# Altium footprint library RUT2CLOUD.PcbLib: 44 footprints (part 1 of 3)
Each footprint in its own frame and in the unit in brackets; x right, y up, seen from the top. Pads: shape width x height; smd on the part's side, far side on the other; paste and mask are expansions set on the pad; w line width, h text height; cw(c..) or ccw(c..) is an arc to the next point about the centre after c.
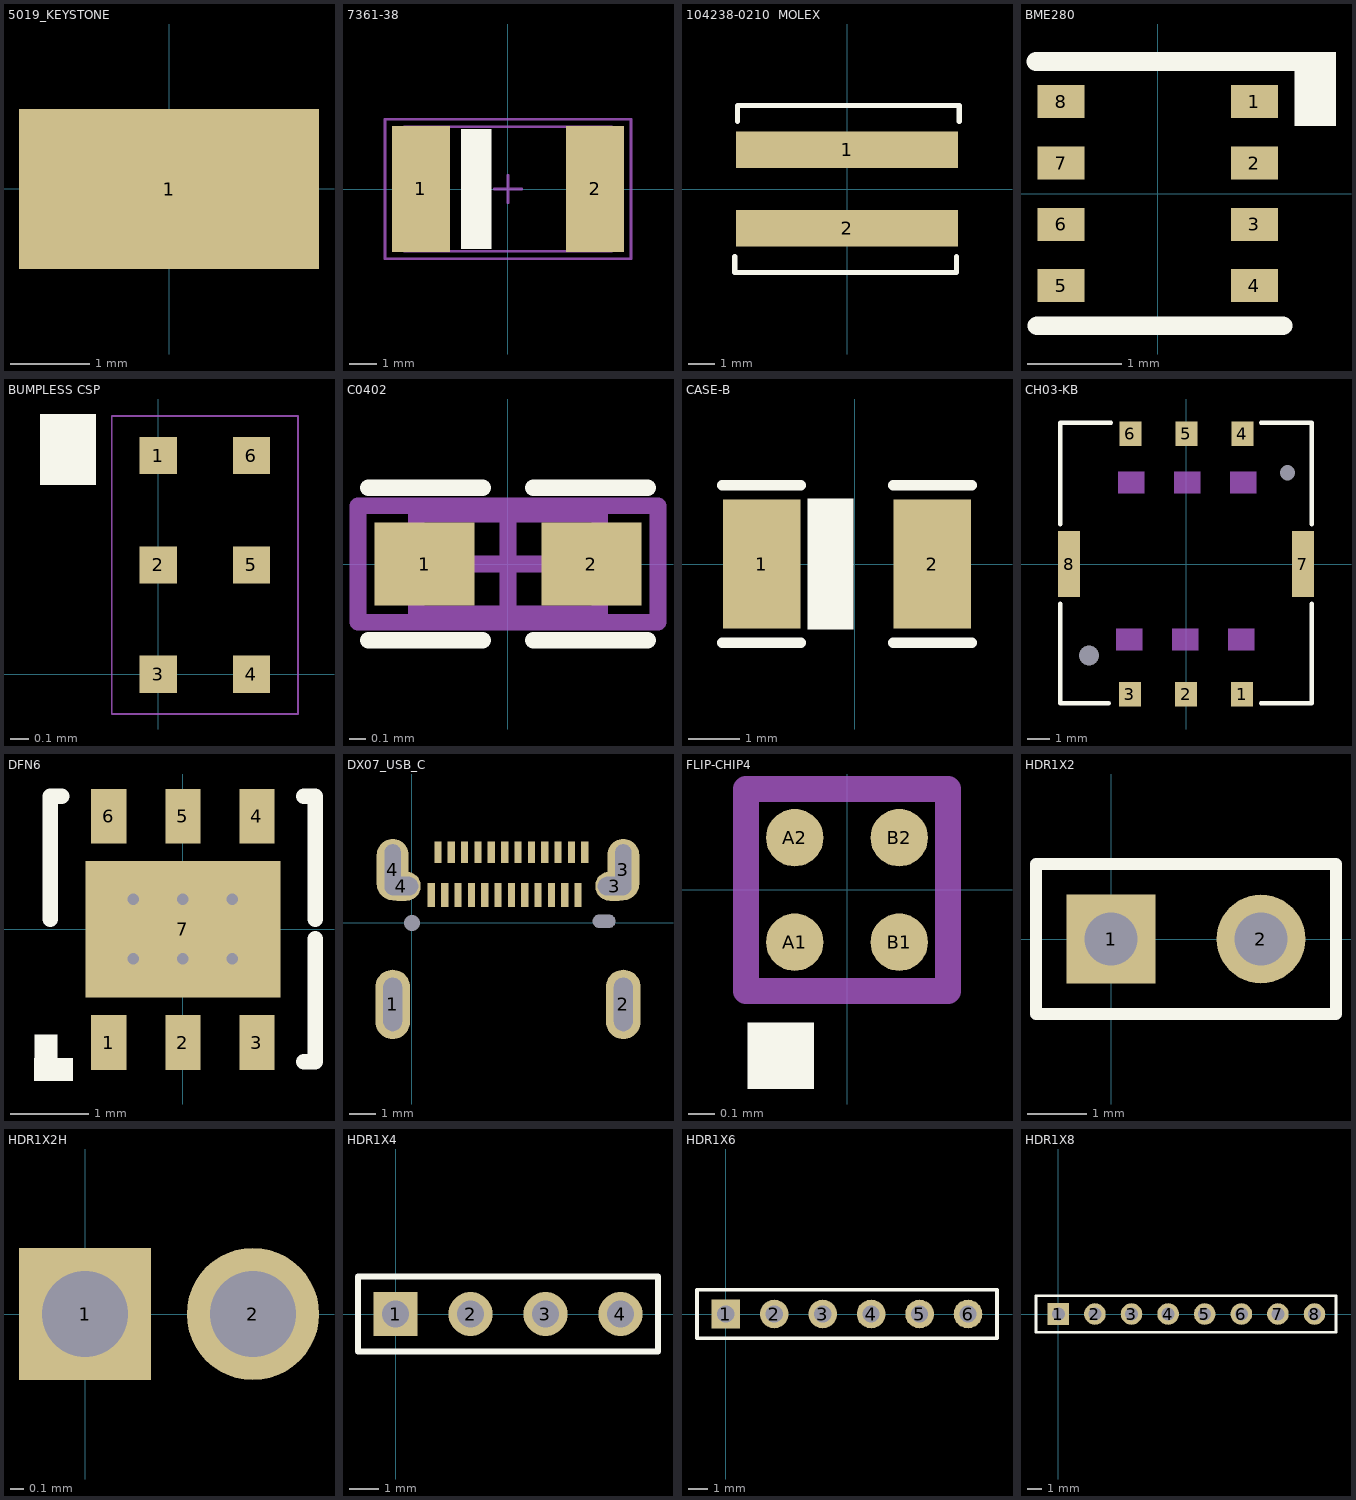
[diagram p0: the footprints below, top view; thin cyan lines are the x and y axes]

## 5019_KEYSTONE [mm] "Keystone Test Point 5019"
height 2.3
pads (1):
  rect 3.8x2.03 smd: 1(0,0)
3D body "User Library-User Library-Keystone_5019.step": height 2.29, standoff 0.01, extent -1.905,-1.015 1.905,1.015

## 7361-38 [mm]
height 3.8
pads (2):
  rect 2.1x4.55 smd: 1(-3.15,0.009) 2(3.15,0.009)
Top Overlay:
  rectangle: -1.7,-2.166 -0.6,2.184
Mechanical 13:
  lines w0.1: -3.75,-2.241 3.75,-2.241 3.75,2.259 -3.75,2.259 -3.75,-2.241
Mechanical 15:
  lines w0.1: -0.5,0.009 0.5,0.009 ; 0,-0.491 0,0.509 ; -4.45,-2.516 4.45,-2.516 4.45,2.534 -4.45,2.534 -4.45,-2.516
3D body "User Library-CT_V.step": height 3.45, standoff 0, extent -3.65,-3.05 3.65,3.05

## 104238-0210  MOLEX [mm] "Molex Mini-Lite-Trap Poke-in Connector"
height 2.65
pads (2):
  rect 8.5x1.4 smd: 1(0,1.5) 2(0,-1.5)
Top Overlay:
  lines w0.2: -4.3,-2.6 -4.3,-3.2 4.2,-3.2 4.2,-2.6 ; -4.2,2.6 -4.2,3.2 4.3,3.2 4.3,2.6
3D body "1042380210.stp": height 2.8, standoff 0.04, extent -4,-3 3.9,3
3D body: height 0.25, standoff 0, extent -3.5,-0.3 -3.5,-0.3

## BME280 [mm] "Environmental Sensor"
height 0.93
pads (8):
  rect 0.5x0.35 smd: 1(1.025,0.975) 2(1.025,0.325) 3(1.025,-0.325) 4(1.025,-0.975) 5(-1.025,-0.975) 6(-1.025,-0.325) 7(-1.025,0.325) 8(-1.025,0.975)
Top Overlay:
  rectangle: 1.45,0.72 1.89,1.5
  lines w0.2: -1.29,1.4 1.55,1.4 1.55,1.15 ; -1.28,-1.4 1.33,-1.4
3D body "Bosch_BME280.step": height 0.93, standoff 0, extent -1.25,-1.25 1.25,1.25

## BUMPLESS CSP [mm] "1.6x1.0mm"
height 0.4
pads (6):
  rect 0.2x0.2 smd: 1(0,1.174) 2(0,0.587) 3(0,0) 4(0.5,0) 5(0.5,0.587) 6(0.5,1.174)
Top Overlay:
  rectangle: -0.635,1.016 -0.335,1.397
Mechanical 1:
  lines w0.01: -0.25,-0.213 -0.25,1.387 0.75,1.387 0.75,-0.213 -0.25,-0.213
3D body: height 0.43, standoff 0.01, extent -0.25,-0.213 0.75,1.387

## C0402 [mm] "Chip Capacitor, 2-Leads, Body 1,0x0,5mm, IPC High Density"
height 0.6
pads (2):
  rect 0.6x0.5 smd: 1(-0.5,0) 2(0.5,0)
Top Overlay:
  lines w0.1: -0.838,-0.457 -0.152,-0.457 ; -0.838,0.457 -0.152,0.457 ; 0.152,-0.457 0.838,-0.457 ; 0.152,0.457 0.838,0.457
Mechanical 13:
  lines w0.1: -0.55,-0.3 0.55,-0.3 0.55,0.3 -0.55,0.3 -0.55,-0.3
Mechanical 15:
  lines w0.1: -0.3,0 0.3,0 ; 0,-0.3 0,0.3 ; -0.9,-0.35 0.9,-0.35 0.9,0.35 -0.9,0.35 -0.9,-0.35
3D body "SW3dPS-0402 SMD Capacitor.STEP": height 0.2, standoff 0, extent -0.5,-0.244 0.5,0.356

## CASE-B [mm] "Tantalum capacitors standart case B"
height 2
pads (2):
  rect 1.5x2.5 smd: 1(-1.8,0) 2(1.502,0)
Top Overlay:
  rectangle: -0.911,-1.27 -0.022,1.27
  lines w0.2: -2.562,-1.524 -1.038,-1.524 ; -2.562,1.524 -1.038,1.524 ; 0.74,-1.524 2.264,-1.524 ; 0.74,1.524 2.264,1.524
3D body "Case B.STEP": height 2.14, standoff 0.04, extent -1.994,-1.397 1.696,1.423

## CH03-KB [mm] "Nano SIM Card Connector"
height 1.35
pads (10):
  rect 1x1.1 smd: 1(2.54,-5.9) 2(0,-5.9) 3(-2.54,-5.9) 4(2.56,5.91) 5(0.02,5.91) 6(-2.52,5.91)
  rect 1x3 smd: 7(5.3,0) 8(-5.3,0)
  round 0 hole 0.9 unplated: ""(-4.4,-4.15)
  round 0 hole 0.7 unplated: ""(4.6,4.15)
Top Overlay:
  lines w0.2: -5.7,-1.8 -5.7,-6.3 -3.5,-6.3 ; -5.7,1.8 -5.7,6.2 -5.7,6.4 -3.4,6.4 ; 3.4,-6.3 5.7,-6.3 5.7,-1.8 ; 3.4,6.4 5.7,6.4 5.7,1.8
Mechanical 1:
  region: 0.57,-2.92 -0.63,-2.92 -0.63,-3.92 0.57,-3.92
  region: -1.97,-2.92 -3.17,-2.92 -3.17,-3.92 -1.97,-3.92
  region: 3.11,-2.92 1.91,-2.92 1.91,-3.92 3.11,-3.92
  rectangle: -3.09,3.19 -1.89,4.19
  rectangle: 1.99,3.19 3.19,4.19
  rectangle: -0.55,3.19 0.65,4.19
3D body "CH03-KB060-HAR_rev1.1.STEP": height 1.35, standoff -0.4, extent -5.43,-6.1 5.41,6.1

## DFN6 [mm] "DFN6 (3 x 3 mm)"
height 0.8
pads (7):
  rect 0.45x0.7 smd: 1(-0.95,-1.455) 2(0,-1.455) 3(0.95,-1.455) 4(0.95,1.445) 5(0,1.445) 6(-0.95,1.445)
  rect 2.5x1.75 smd: 7(0,0)
via -0.635,-0.381 diameter 0.3 hole 0.15
via 0.635,-0.381 diameter 0.3 hole 0.15
via 0,-0.381 diameter 0.3 hole 0.15
via -0.635,0.381 diameter 0.3 hole 0.15
via 0.635,0.381 diameter 0.3 hole 0.15
via 0,0.381 diameter 0.3 hole 0.15
Top Overlay:
  region: -1.605,-1.951 -1.605,-1.351 -1.905,-1.351 -1.905,-1.951
  region: -1.405,-1.951 -1.405,-1.651 -1.905,-1.651 -1.905,-1.951
  lines w0.2: -1.7,0.125 -1.7,1.7 -1.55,1.7 ; 1.55,-1.7 1.7,-1.7 1.7,-0.125 ; 1.55,1.7 1.7,1.7 1.7,0.125
3D body "User Library-dfn6_3x3_rm0_95.step": height 0.8, standoff 0, extent -1.5,-1.55 1.5,1.55

## DX07_USB_C [mm] "DX07S024JJ2R1300"
height 4.14
pads (32):
  oval 1.3x2.6 hole 0.7 slot 2 at 90 deg: 1(-0.72,-3.05) 2(7.92,-3.05)
  oval 1.45x1.1 hole 0.7 slot 1.25 at 0 deg: 3(7.594,1.38) 4(-0.394,1.38)
  oval 1.2x2.3 hole 0.6 slot 1.9 at 90 deg: 3(7.92,2) 4(-0.72,2)
  rect 0.27x0.8 smd: A1(0.975,2.649) A2(1.475,2.649) A3(1.975,2.649) A4(2.475,2.649) A5(2.975,2.649) A6(3.475,2.649) A7(3.975,2.649) A8(4.475,2.649) A9(4.975,2.649) A10(5.475,2.649) A11(5.975,2.649) A12(6.475,2.649)
  rect 0.27x0.9 smd: B1(6.227,1.049) B2(5.727,1.049) B3(5.227,1.049) B4(4.727,1.049) B5(4.227,1.049) B6(3.727,1.049) B7(3.227,1.049) B8(2.727,1.049) B9(2.227,1.049) B10(1.727,1.049) B11(1.227,1.049) B12(0.727,1.049)
  round 0 hole 0.6 unplated: ""(0,0)
  round 0 hole 0.5 slot 0.85 at 0 deg unplated: ""(7.2,0.065)
Mechanical 1:
  lines w0.1: 7.2,0 7.2,0.065
3D body "K3D-DX07S024JJ2-V1_JAE_Proprietary.STEP": height 3.17, standoff -0.6, extent -0.86,-5.345 8.08,2.825

## FLIP-CHIP4 [mm]
height 0.56
pads (4):
  round 0.22 smd: A1(-0.2,-0.2) A2(-0.2,0.2) B1(0.2,-0.2) B2(0.2,0.2)
Top Overlay:
  rectangle: -0.381,-0.762 -0.127,-0.508
Mechanical 1:
  lines w0.1: -0.387,-0.387 -0.387,0.386 0.386,0.386 0.386,-0.387 -0.387,-0.387
3D body: height 0.36, standoff 0.11, extent -0.387,-0.387 0.386,0.386
3D body: height 0.2, standoff -0.02, extent -0.3,-0.308 -0.086,-0.091
3D body: height 0.2, standoff -0.02, extent 0.1,-0.308 0.314,-0.092
3D body: height 0.2, standoff -0.02, extent 0.097,0.092 0.31,0.309
3D body: height 0.2, standoff -0.02, extent -0.303,0.092 -0.09,0.309

## HDR1X2 [mm] "Connector; Header; 2 Position"
pads (2):
  rect 1.5x1.5 hole 0.9: 1(0,0)
  round 1.5 hole 0.9: 2(2.54,0)
Top Overlay:
  lines w0.2: -1.27,-1.27 -1.27,1.27 3.81,1.27 3.81,-1.27 -1.27,-1.27

## HDR1X2H [mm] "Connector; Header; 2 Position; Right Angle"
pads (2):
  rect 1x1 hole 0.65: 1(0,0)
  round 1 hole 0.65: 2(1.27,0)

## HDR1X4 [mm] "Connector; Header; 4 Position"
pads (4):
  rect 1.5x1.5 hole 0.9: 1(0,0)
  round 1.5 hole 0.9: 2(2.54,0) 3(5.08,0) 4(7.62,0)
Top Overlay:
  lines w0.2: -1.27,-1.27 -1.27,1.27 8.89,1.27 8.89,-1.27 -1.27,-1.27

## HDR1X6 [mm] "Connector; Header; 6 Position"
pads (6):
  rect 1.5x1.5 hole 0.9: 1(0,0)
  round 1.5 hole 0.9: 2(2.54,0) 3(5.08,0) 4(7.62,0) 5(10.16,0) 6(12.7,0)
Top Overlay:
  lines w0.2: -1.51,-1.27 -1.51,1.27 14.22,1.27 14.22,-1.27 -1.51,-1.27
3D body "zl262-6s_p2-54_l15-7_w2-54_h8-5.stp": height 8.6, standoff -2.9, extent -1.515,-1.275 14.225,1.265

## HDR1X8 [mm] "Connector; Header; 8 Position"
pads (8):
  rect 1.5x1.5 hole 0.9: 1(0,0)
  round 1.5 hole 0.9: 2(2.54,0) 3(5.08,0) 4(7.62,0) 5(10.16,0) 6(12.7,0) 7(15.24,0) 8(17.78,0)
Top Overlay:
  lines w0.2: -1.55,-1.27 -1.55,1.27 19.27,1.27 19.27,-1.27 -1.55,-1.27
3D body "zl262-8s_p2-54_l20-8_w2-54_h8-5.stp": height 8.6, standoff -2.9, extent -1.55,-1.26 19.27,1.28